# EAGLE library part H8-PRO-BOARD (library connector)
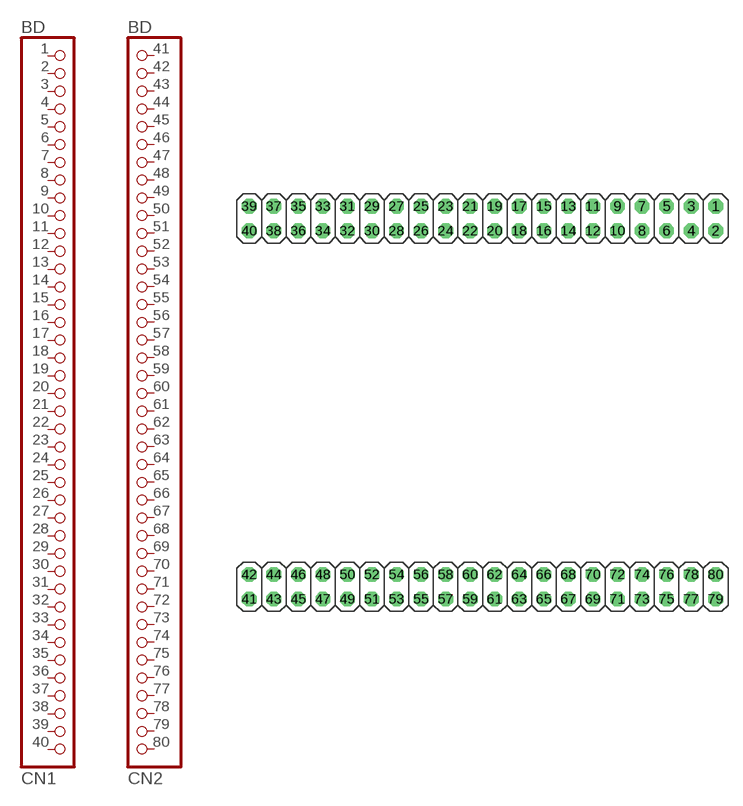
[diagram p44: symbol with the pads of H8-PRO-BOARD; footprint H8-PRO-BOARD]

Designator prefix BD

## H8-PRO-BOARD  [H8-PRO-BOARD]
1  1-1  pas
2  1-2  pas
3  1-3  pas
4  1-4  pas
5  1-5  pas
6  1-6  pas
7  1-7  pas
8  1-8  pas
9  1-9  pas
10  1-10  pas
11  1-11  pas
12  1-12  pas
13  1-13  pas
14  1-14  pas
15  1-15  pas
16  1-16  pas
17  1-17  pas
18  1-18  pas
19  1-19  pas
20  1-20  pas
21  1-21  pas
22  1-22  pas
23  1-23  pas
24  1-24  pas
25  1-25  pas
26  1-26  pas
27  1-27  pas
28  1-28  pas
29  1-29  pas
30  1-30  pas
31  1-31  pas
32  1-32  pas
33  1-33  pas
34  1-34  pas
35  1-35  pas
36  1-36  pas
37  1-37  pas
38  1-38  pas
39  1-39  pas
40  1-40  pas
41  2-1  pas
42  2-2  pas
43  2-3  pas
44  2-4  pas
45  2-5  pas
46  2-6  pas
47  2-7  pas
48  2-8  pas
49  2-9  pas
50  2-10  pas
51  2-11  pas
52  2-12  pas
53  2-13  pas
54  2-14  pas
55  2-15  pas
56  2-16  pas
57  2-17  pas
58  2-18  pas
59  2-19  pas
60  2-20  pas
61  2-21  pas
62  2-22  pas
63  2-23  pas
64  2-24  pas
65  2-25  pas
66  2-26  pas
67  2-27  pas
68  2-28  pas
69  2-29  pas
70  2-30  pas
71  2-31  pas
72  2-32  pas
73  2-33  pas
74  2-34  pas
75  2-35  pas
76  2-36  pas
77  2-37  pas
78  2-38  pas
79  2-39  pas
80  2-40  pas

## Footprint H8-PRO-BOARD (pad centres in mm)
drill 1.016 octagon: 1 24.13,20.32; 2 24.13,17.78; 3 21.59,20.32; 4 21.59,17.78; 5 19.05,20.32; 6 19.05,17.78; 7 16.51,20.32; 8 16.51,17.78; 9 13.97,20.32; 10 13.97,17.78; 11 11.43,20.32; 12 11.43,17.78; 13 8.89,20.32; 14 8.89,17.78; 15 6.35,20.32; 16 6.35,17.78; 17 3.81,20.32; 18 3.81,17.78; 19 1.27,20.32; 20 1.27,17.78; 21 -1.27,20.32; 22 -1.27,17.78; 23 -3.81,20.32; 24 -3.81,17.78; 25 -6.35,20.32; 26 -6.35,17.78; 27 -8.89,20.32; 28 -8.89,17.78; 29 -11.43,20.32; 30 -11.43,17.78; 31 -13.97,20.32; 32 -13.97,17.78; 33 -16.51,20.32; 34 -16.51,17.78; 35 -19.05,20.32; 36 -19.05,17.78; 37 -21.59,20.32; 38 -21.59,17.78; 39 -24.13,20.32; 40 -24.13,17.78; 41 -24.13,-20.32; 42 -24.13,-17.78; 43 -21.59,-20.32; 44 -21.59,-17.78; 45 -19.05,-20.32; 46 -19.05,-17.78; 47 -16.51,-20.32; 48 -16.51,-17.78; 49 -13.97,-20.32; 50 -13.97,-17.78; 51 -11.43,-20.32; 52 -11.43,-17.78; 53 -8.89,-20.32; 54 -8.89,-17.78; 55 -6.35,-20.32; 56 -6.35,-17.78; 57 -3.81,-20.32; 58 -3.81,-17.78; 59 -1.27,-20.32; 60 -1.27,-17.78; 61 1.27,-20.32; 62 1.27,-17.78; 63 3.81,-20.32; 64 3.81,-17.78; 65 6.35,-20.32; 66 6.35,-17.78; 67 8.89,-20.32; 68 8.89,-17.78; 69 11.43,-20.32; 70 11.43,-17.78; 71 13.97,-20.32; 72 13.97,-17.78; 73 16.51,-20.32; 74 16.51,-17.78; 75 19.05,-20.32; 76 19.05,-17.78; 77 21.59,-20.32; 78 21.59,-17.78; 79 24.13,-20.32; 80 24.13,-17.78